# Altium footprint library ERJ3EKF4122V.PcbLib: 4 footprints
Each footprint in its own frame and in the unit in brackets; x right, y up, seen from the top. Pads: shape width x height; smd on the part's side, far side on the other; paste and mask are expansions set on the pad; w line width, h text height; cw(c..) or ccw(c..) is an arc to the next point about the centre after c.
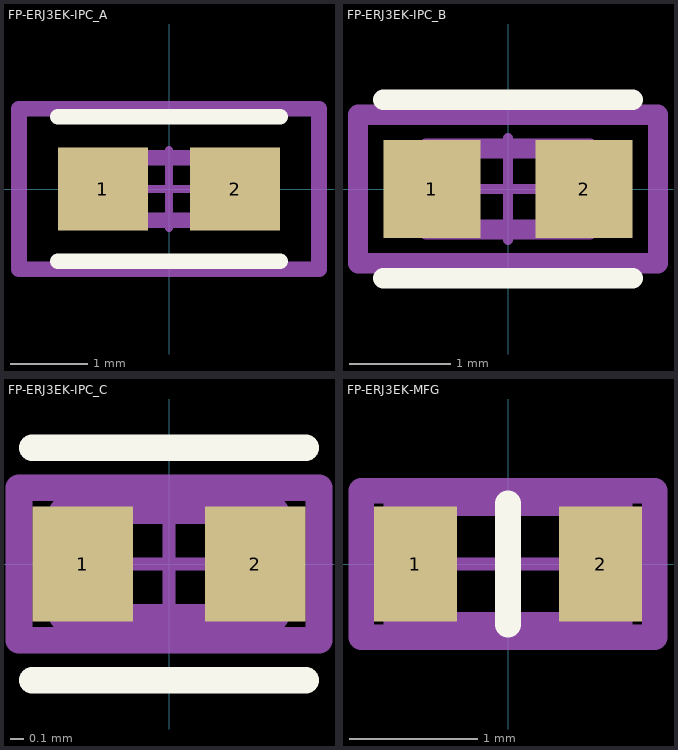
[diagram p0: the footprints below, top view; thin cyan lines are the x and y axes]

## FP-ERJ3EK-IPC_A [mil]
pads (2):
  rect 45.53x41.82 smd paste+0 mask+0: 1(-33.5,0) 2(33.5,0)
Top Overlay:
  lines w7.87: -56.26,-36.66 56.26,-36.66 ; -56.26,36.66 56.26,36.66
Top Assembly:
  lines w7.87: -75.95,-40.59 75.95,-40.59 75.95,40.59 -75.95,40.59 -75.95,-40.59
  text ".Designator" at 0,7.39 h39.37
Top 3D Body:
  lines w7.87: -31.5,-15.75 31.5,-15.75 31.5,15.75 -31.5,15.75 -31.5,-15.75
Top Courtyard:
  lines w7.87: -75.95,-40.59 75.95,-40.59 75.95,40.59 -75.95,40.59 -75.95,-40.59
Top Component Center:
  lines w3.94: -19.68,0 19.68,0 ; 0,-19.68 0,19.68
3D body "Res_Panasonic_ERJ-3EKF1102V_eec.STEP": height 10, standoff 0, extent -75.95,-40.59 75.95,40.59

## FP-ERJ3EK-IPC_B [mm]
pads (2):
  rect 0.957x0.962 smd paste+0 mask+0: 1(-0.751,0) 2(0.751,0)
Top Overlay:
  lines w0.2: -1.229,-0.881 1.229,-0.881 ; -1.229,0.881 1.229,0.881
Top Assembly:
  lines w0.2: -1.479,-0.731 1.479,-0.731 1.479,0.731 -1.479,0.731 -1.479,-0.731
  text ".Designator" at 0,0.188 h1
Top 3D Body:
  lines w0.2: -0.8,-0.4 0.8,-0.4 0.8,0.4 -0.8,0.4 -0.8,-0.4
Top Courtyard:
  lines w0.2: -1.479,-0.731 1.479,-0.731 1.479,0.731 -1.479,0.731 -1.479,-0.731
Top Component Center:
  lines w0.1: -0.5,0 0.5,0 ; 0,-0.5 0,0.5
3D body "Res_Panasonic_ERJ-3EKF1102V_eec.STEP": height 0.25, standoff 0, extent -1.479,-0.731 1.479,0.731

## FP-ERJ3EK-IPC_C [mm]
pads (2):
  rect 0.757x0.862 smd paste+0 mask+0: 1(-0.651,0) 2(0.651,0)
Top Overlay:
  lines w0.2: -1.029,-0.875 1.029,-0.875 ; -1.029,0.875 1.029,0.875
Top Assembly:
  lines w0.2: -1.129,-0.575 1.129,-0.575 1.129,0.575 -1.129,0.575 -1.129,-0.575
  text ".Designator" at 0,0.188 h1
Top 3D Body:
  lines w0.2: -0.8,-0.4 0.8,-0.4 0.8,0.4 -0.8,0.4 -0.8,-0.4
Top Courtyard:
  lines w0.2: -1.129,-0.575 1.129,-0.575 1.129,0.575 -1.129,0.575 -1.129,-0.575
Top Component Center:
  lines w0.1: -0.5,0 0.5,0 ; 0,-0.5 0,0.5
3D body "Res_Panasonic_ERJ-3EKF1102V_eec.STEP": height 0.25, standoff 0, extent -1.129,-0.575 1.129,0.575

## FP-ERJ3EK-MFG [mm]
pads (2):
  rect 0.65x0.9 smd paste+0 mask+0: 1(-0.725,0) 2(0.725,0)
Top Overlay:
  lines w0.2: 0,-0.475 0,0.475
Top Assembly:
  lines w0.2: -1.15,-0.575 1.15,-0.575 1.15,0.575 -1.15,0.575 -1.15,-0.575
  text ".Designator" at 0,-0.001 h1
Top 3D Body:
  lines w0.2: -0.875,-0.475 0.875,-0.475 0.875,0.475 -0.875,0.475 -0.875,-0.475
Top Courtyard:
  lines w0.2: -1.15,-0.575 1.15,-0.575 1.15,0.575 -1.15,0.575 -1.15,-0.575
Top Component Center:
  lines w0.1: -0.5,0 0.5,0 ; 0,-0.5 0,0.5
3D body "Res_Panasonic_ERJ-3EKF1102V_eec.STEP": height 0.25, standoff 0, extent -1.15,-0.575 1.15,0.575